# EAGLE library part RFD21733 (library rfd21733)
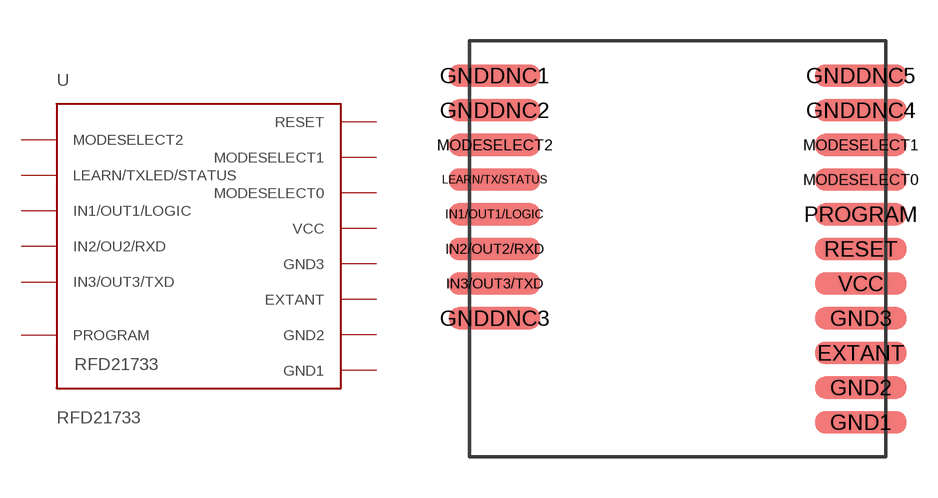
[diagram p0: symbol with the pads of RFD21733; footprint RFD21733]

Designator prefix U

## RFD21733  [RFD21733]
EXTANT  EXTANT
GND1  GND1
GND2  GND2
GND3  GND3
IN1/OUT1/LOGIC  IN1/OUT1/LOGIC
IN2/OUT2/RXD  IN2/OU2/RXD
IN3/OUT3/TXD  IN3/OUT3/TXD
LEARN/TX/STATUS  LEARN/TXLED/STATUS
MODESELECT0  MODESELECT0
MODESELECT1  MODESELECT1
MODESELECT2  MODESELECT2
PROGRAM  PROGRAM
RESET  RESET
VCC  VCC

## Footprint RFD21733 (pad centres in mm)
RFD21733
smd 3.353 x 0.813: EXTANT 14.326,3.81; GND1 14.326,1.27; GND2 14.326,2.54; GND3 14.326,5.08; GNDDNC1 0.914,13.97; GNDDNC2 0.914,12.7; GNDDNC3 0.914,5.08; GNDDNC4 14.326,12.7; GNDDNC5 14.326,13.97; IN1/OUT1/LOGIC 0.914,8.89; IN2/OUT2/RXD 0.914,7.62; IN3/OUT3/TXD 0.914,6.35; LEARN/TX/STATUS 0.914,10.16; MODESELECT0 14.326,10.16; MODESELECT1 14.326,11.43; MODESELECT2 0.914,11.43; PROGRAM 14.326,8.89; RESET 14.326,7.62; VCC 14.326,6.35